# Altium footprint library Resistors.PcbLib: 1 footprints
Each footprint in its own frame and in the unit in brackets; x right, y up, seen from the top. Pads: shape width x height; smd on the part's side, far side on the other; paste and mask are expansions set on the pad; w line width, h text height; cw(c..) or ccw(c..) is an arc to the next point about the centre after c.
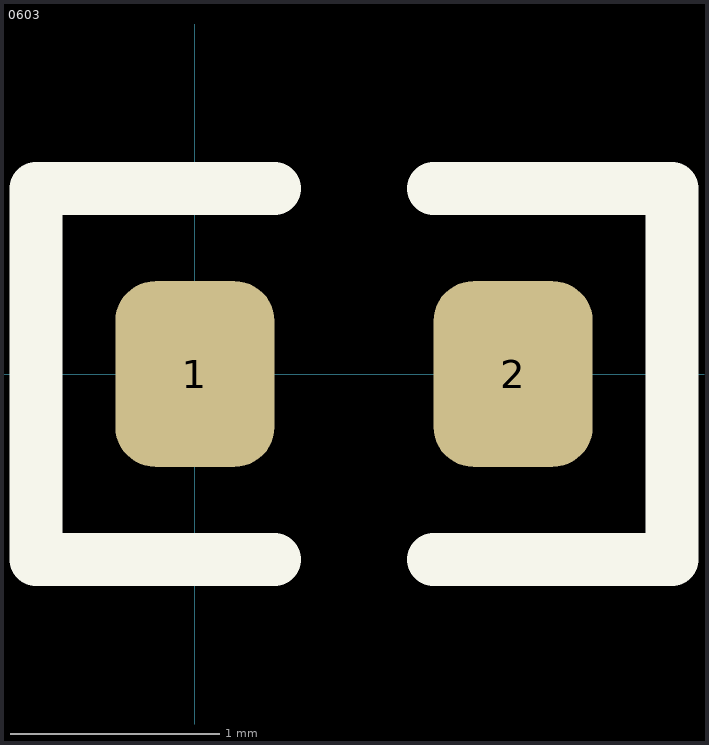
[diagram p0: the footprint, top view; thin cyan lines are the x and y axes]

## 0603 [mil]
pads (2):
  rrect50% 30x35 smd: 1(0,0) 2(60,0)
Top Overlay:
  lines w10: 15,-35 -30,-35 -30,35 15,35 ; 45,-35 90,-35 90,35 45,35